# EAGLE library part PCA9540BDP (library tide_clock)
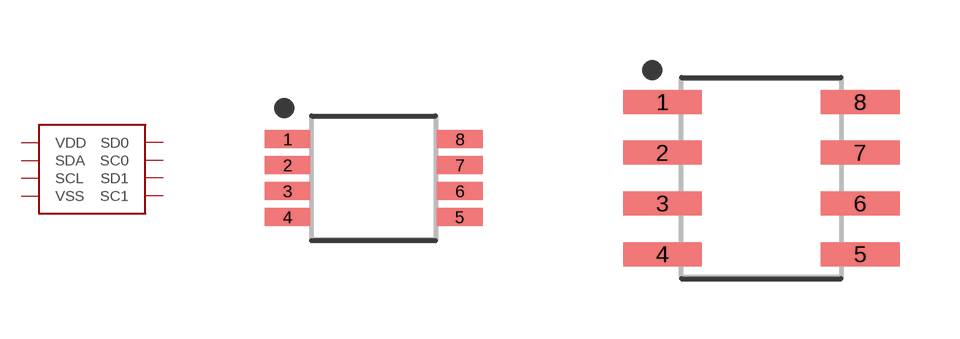
[diagram p19: symbol with the pads of TSSOP8; footprints TSSOP8, SOIC127P599X175-8]

Designator prefix U

## PCA9540BDP  [TSSOP8]
1  SCL
2  SDA
3  VDD
4  SD0
5  SC0
6  VSS
7  SD1
8  SC1

## PCA9540BDPSOIC8  [SOIC127P599X175-8]
Pads as for TSSOP8

## Footprint TSSOP8 (pad centres in mm)
8-SOP, 0.65 mm pitch, 4.90 mm span, 3.00 X 3.00 X 1.10 mm body 8-pin SOP package with 0.65 mm pitch, 4.90 mm span with body size 3.00 X 3.00 X 1.10 mm
smd 1.15 x 0.45: 1 -2.153,0.975; 2 -2.153,0.325; 3 -2.153,-0.325; 4 -2.153,-0.975; 5 2.153,-0.975; 6 2.153,-0.325; 7 2.153,0.325; 8 2.153,0.975

## Footprint SOIC127P599X175-8 (pad centres in mm)
8-SOIC, 1.27 mm pitch, 6.00 mm span, 4.89 X 3.90 X 1.75 mm body 8-pin SOIC package with 1.27 mm pitch, 6.00 mm span with body size 4.89 X 3.90 X 1.75 mm
smd 1.972 x 0.599: 1 -2.472,1.905; 2 -2.472,0.635; 3 -2.472,-0.635; 4 -2.472,-1.905; 5 2.472,-1.905; 6 2.472,-0.635; 7 2.472,0.635; 8 2.472,1.905